# Altium footprint library PCB - Passiv - Ferrit Bead Chip - 0402.PcbLib: 1 footprints
Each footprint in its own frame and in the unit in brackets; x right, y up, seen from the top. Pads: shape width x height; smd on the part's side, far side on the other; paste and mask are expansions set on the pad; w line width, h text height; cw(c..) or ccw(c..) is an arc to the next point about the centre after c.
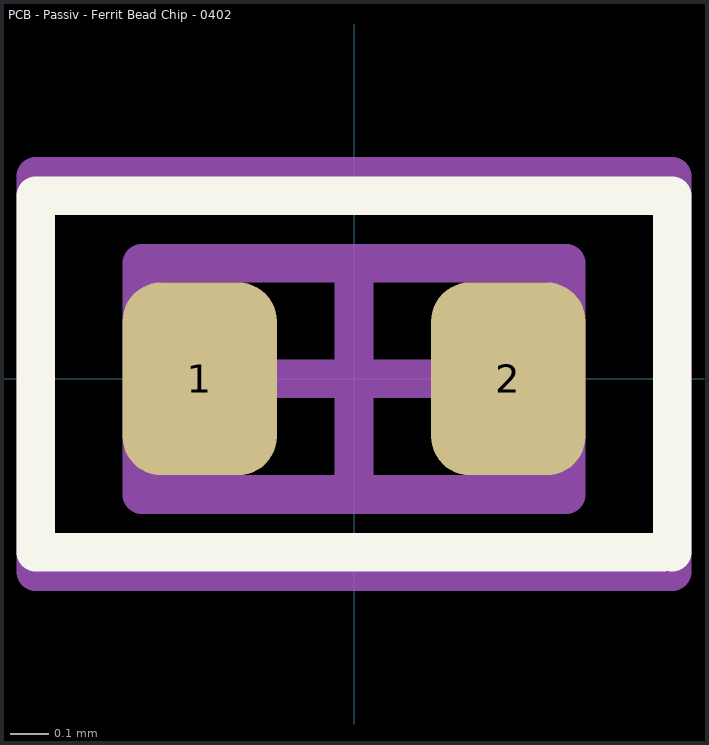
[diagram p0: the footprint, top view; thin cyan lines are the x and y axes]

## PCB - Passiv - Ferrit Bead Chip - 0402 [mm]
pads (2):
  rrect50% 0.4x0.5 smd: 1(-0.4,0) 2(0.4,0)
Top Overlay:
  lines w0.1: 0.8,-0.45 -0.825,-0.45 -0.825,0.475 0.825,0.475 0.825,-0.45
Mechanical 13:
  lines w0.1: -0.55,-0.3 0.55,-0.3 0.55,0.3 -0.55,0.3 -0.55,-0.3
Mechanical 15:
  lines w0.1: -0.3,0 0.3,0 ; 0,-0.3 0,0.3 ; -0.825,-0.5 0.825,-0.5 0.825,0.525 -0.825,0.525 -0.825,-0.5
3D body "User Library-res0402-1.STEP": height 0.3, standoff 0, extent -0.5,-0.254 0.5,0.246